# Altium footprint library BH-10(DS1013-10S).PcbLib: 1 footprints
Each footprint in its own frame and in the unit in brackets; x right, y up, seen from the top. Pads: shape width x height; smd on the part's side, far side on the other; paste and mask are expansions set on the pad; w line width, h text height; cw(c..) or ccw(c..) is an arc to the next point about the centre after c.
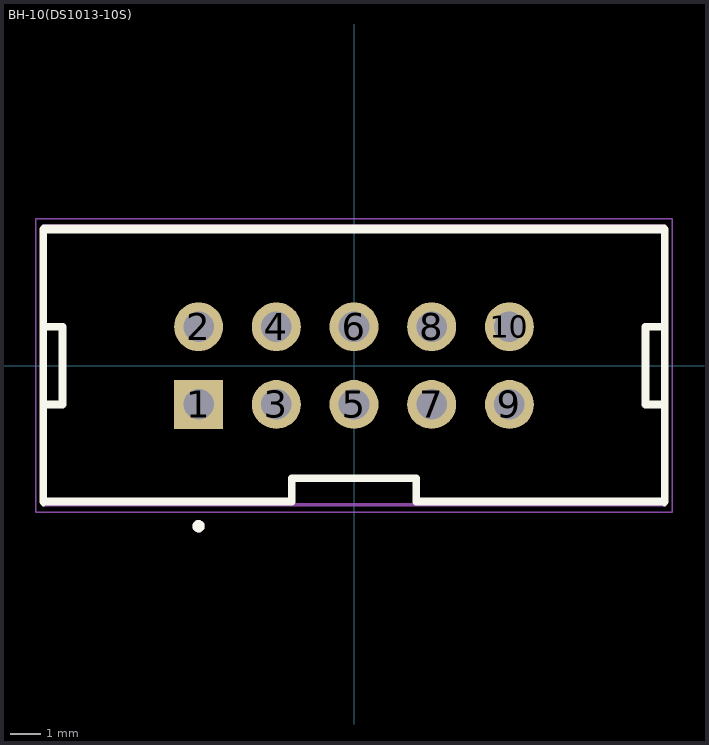
[diagram p0: the footprint, top view; thin cyan lines are the x and y axes]

## BH-10(DS1013-10S) [mm]
height 9.3
pads (10):
  rect 1.6x1.6 hole 1: 1(-5.08,-1.27)
  round 1.6 hole 1: 2(-5.08,1.27) 3(-2.54,-1.27) 4(-2.54,1.27) 5(0,-1.27) 6(0,1.27) 7(2.54,-1.27) 8(2.54,1.27) 9(5.08,-1.27) 10(5.08,1.27)
Top Overlay:
  circle w0.2: c-5.08,-5.25 r0.1
  lines w0.127: -10.15,-4.55 -10.15,4.55 10.15,4.55 10.15,-4.55
  lines w0.254: -10.16,-1.27 -9.525,-1.27 -9.525,1.27 -10.16,1.27 ; 10.16,-1.27 9.525,-1.27 9.525,1.27 10.16,1.27 ; -10.16,-4.445 -2.032,-4.445 -2.032,-3.683 2.032,-3.683 2.032,-4.445 10.16,-4.445 10.16,4.445 -10.16,4.445 -10.16,-4.445
Courtyard Top:
  lines w0.05: -10.4,-4.8 -10.4,4.8 10.4,4.8 10.4,-4.8 -10.4,-4.8
  lines w0.127: -10.15,-4.55 10.15,-4.55
Courtyard Bottom:
  circle w0.2: c-5.08,-5.25 r0.1
  lines w0.127: -10.15,-4.55 -10.15,4.55 10.15,4.55 10.15,-4.55
3D body "step_temp.STEP": height 9.1, standoff -3.1, extent -10.15,-4.423 10.15,4.677